# EAGLE library part LPC82XM101JDH20 (library LPC800)
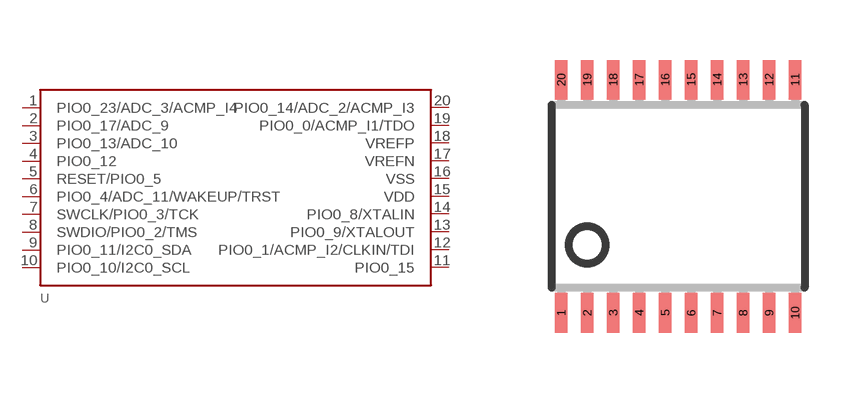
[diagram p5: symbol with the pads of TSSOP20; footprint TSSOP20]

Designator prefix -

## LPC82XM101JDH20  [TSSOP20]
1  PIO0_23/ADC_3/ACMP_I4
2  PIO0_17/ADC_9
3  PIO0_13/ADC_10
4  PIO0_12
5  RESET/PIO0_5
6  PIO0_4/ADC_11/WAKEUP/TRST
7  SWCLK/PIO0_3/TCK
8  SWDIO/PIO0_2/TMS
9  PIO0_11/I2C0_SDA
10  PIO0_10/I2C0_SCL
11  PIO0_15
12  PIO0_1/ACMP_I2/CLKIN/TDI
13  PIO0_9/XTALOUT
14  PIO0_8/XTALIN
15  VDD
16  VSS
17  VREFN
18  VREFP
19  PIO0_0/ACMP_I1/TDO
20  PIO0_14/ADC_2/ACMP_I3

## Footprint TSSOP20 (pad centres in mm)
TSSOP20 0.65mm pitch
smd 0.305 x 0.991: 1 -2.925,-2.918; 2 -2.275,-2.918; 3 -1.625,-2.918; 4 -0.975,-2.918; 5 -0.325,-2.918; 6 0.325,-2.918; 7 0.975,-2.918; 8 1.625,-2.918; 9 2.275,-2.918; 10 2.925,-2.918; 11 2.925,2.918; 12 2.275,2.918; 13 1.625,2.918; 14 0.975,2.918; 15 0.325,2.918; 16 -0.325,2.918; 17 -0.975,2.918; 18 -1.625,2.918; 19 -2.275,2.918; 20 -2.925,2.918